# Altium integrated library CRG0603F10K_10.IntLib: 1 symbol
Pins are listed as number, name and electrical type; pins without a type are passive.

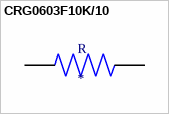
[diagram p0: symbol CRG0603F10K/10]

## CRG0603F10K/10
designator R
Thick Film Resistors - SMD CRG0603 1% 10K 10K RL; Voltage_Rating: 50 V; MF: TE Connectivity; Power_Rating: .1 W; MP: CRG0603F10K/10; EU_RoHS_Compliance: Compliant with Exemptions; SnapEDA_Link: https://www.snapeda.com/parts/CRG0603F10K/10/TE%20Connectivity%20Passive%20Product/view-part/979761/?ref=snap; Tolerance: 1%; Availability: Unavailable; Price: None; Resistance: 10K; Package: 0603; TE_purchase_URL: https://www.te.com/usa-en/product-1622829-2.html?te_bu=Cor&te_type=disp&te_campaign=seda_glo_cor-seda-global-disp-prtnr-fy19-seda-model-bom-cta_sma-317_1&elqCampaignId=32493; Value: *
footprint RESC1608X55N
pins: 1, 2